# Altium schematic symbol library BB9009A.01.A.4.SchLib: 1 symbol
Pins are listed as number, name and electrical type; pins without a type are passive.

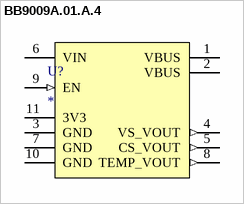
[diagram p0: symbol BB9009A.01.A.4]

## BB9009A.01.A.4
designator U?
pins: 1 VBUS (power), 2 VBUS (power), 3 GND (power), 4 VS_VOUT (out), 5 CS_VOUT (out), 6 VIN (power), 7 GND (power), 8 TEMP_VOUT (out), 9 EN (in), 10 GND (power), 11 3V3 (power)